# EAGLE library part POLOLU_HP_SWITCH_HORIZ (library scono)
Pololu HP / MP Power switch Can be in several orientations
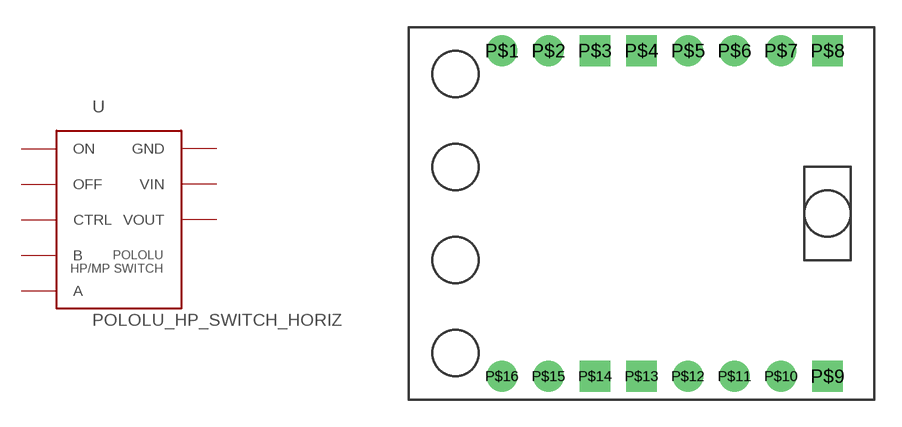
[diagram p10: symbol with the pads of POLOLU_HP_POWER_HORIZ; footprint POLOLU_HP_POWER_HORIZ]

Designator prefix U

## POLOLU_HP_SWITCH_HORIZ  [POLOLU_HP_POWER_HORIZ]
P$1  VOUT
P$2  VOUT
P$3  GND
P$4  GND
P$5  B
P$6  A
P$7  A
P$8  GND
P$9  GND
P$10  CTRL
P$11  OFF
P$12  ON
P$13  GND
P$14  GND
P$15  VIN
P$16  VIN

## Footprint POLOLU_HP_POWER_HORIZ (pad centres in mm)
Pololu MP/HP Powerswtich in horizontal orientation
drill 1 pad 1.676: P$1 -8.89,8.89; P$2 -6.35,8.89; P$5 1.27,8.89; P$6 3.81,8.89; P$7 6.35,8.89; P$10 6.35,-8.89; P$11 3.81,-8.89; P$12 1.27,-8.89; P$15 -6.35,-8.89; P$16 -8.89,-8.89
drill 1 pad 1.676 square: P$3 -3.81,8.89; P$4 -1.27,8.89; P$8 8.89,8.89; P$9 8.89,-8.89; P$13 -1.27,-8.89; P$14 -3.81,-8.89